# Altium footprint library Other.PcbLib: 10 footprints
Each footprint in its own frame and in the unit in brackets; x right, y up, seen from the top. Pads: shape width x height; smd on the part's side, far side on the other; paste and mask are expansions set on the pad; w line width, h text height; cw(c..) or ccw(c..) is an arc to the next point about the centre after c.
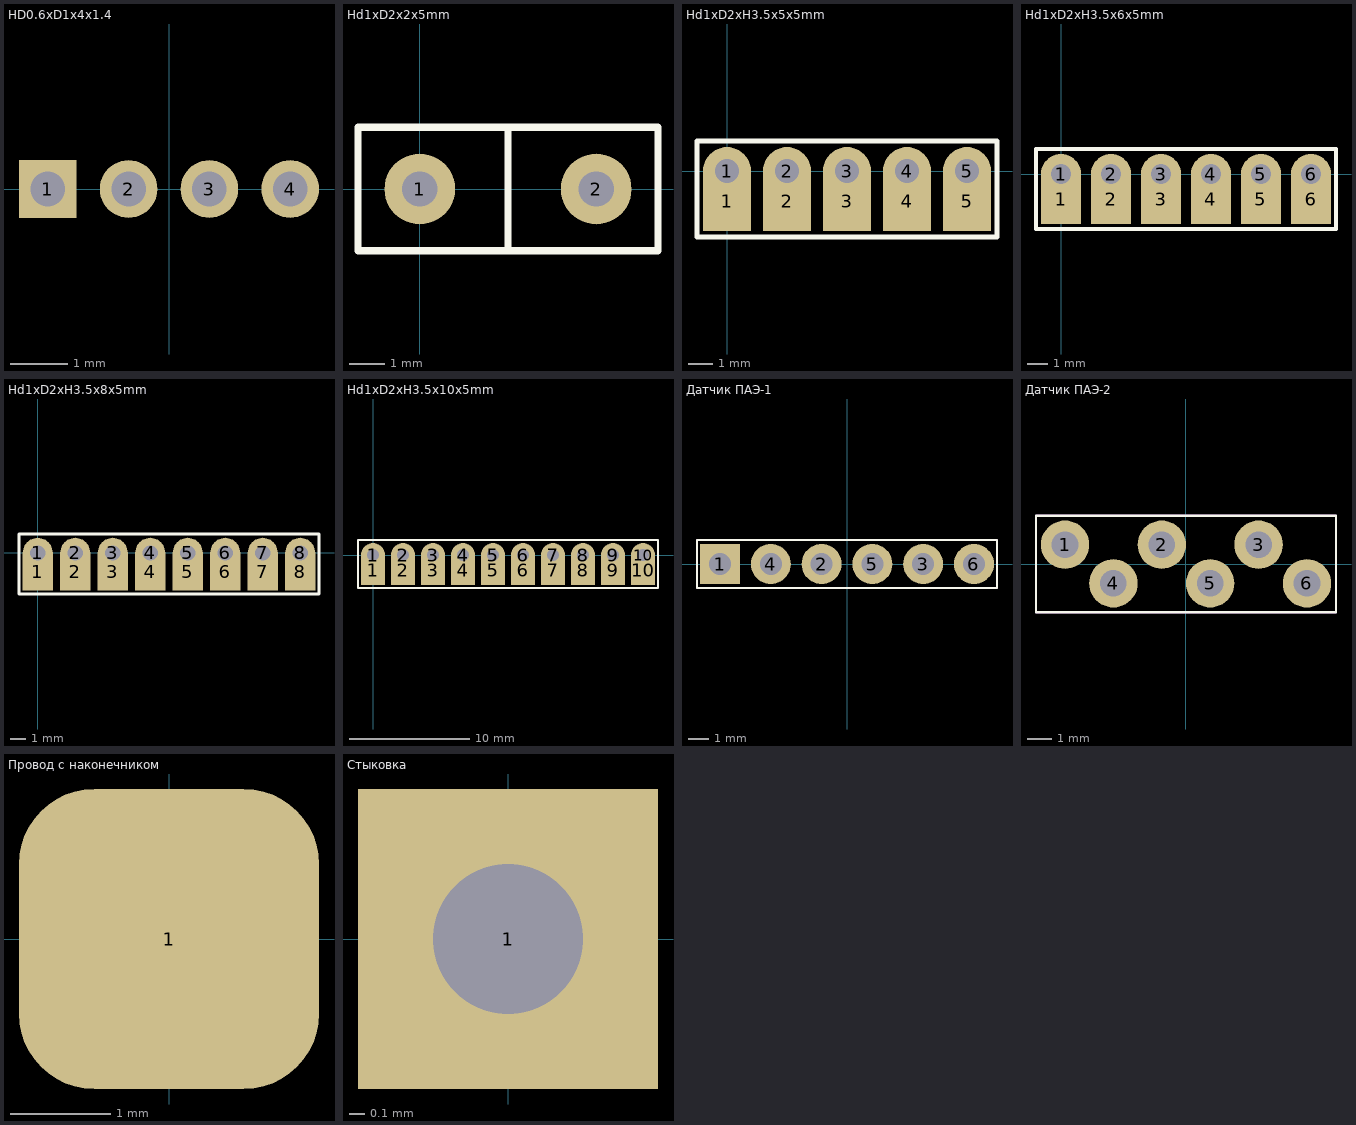
[diagram p0: the footprints below, top view; thin cyan lines are the x and y axes]

## HD0.6xD1x4x1.4 [mm]
pads (4):
  rect 1x1 hole 0.6: 1(-2.1,0)
  round 1 hole 0.6: 2(-0.7,0) 3(0.7,0) 4(2.1,0)

## Hd1xD2x2x5mm [mm]
pads (2):
  round 2 hole 1: 1(0,0) 2(5,0)
Top Overlay:
  lines w0.2: 2.5,-1.75 2.5,1.75 ; -1.75,-1.75 -1.75,1.75 6.75,1.75 6.75,-1.75 -1.75,-1.75
Bottom Overlay:
  lines w0.2: 2.5,-1.75 2.5,1.75 ; -1.75,-1.75 -1.75,1.75 6.75,1.75 6.75,-1.75 -1.75,-1.75

## Hd1xD2xH3.5x5x5mm [mm]
pads (10):
  rect 2x2.5 all layers, no hole: 1(0,-1.25) 2(2.5,-1.25) 3(5,-1.25) 4(7.5,-1.25) 5(10,-1.25)
  round 2 hole 1: 1(0,0) 2(2.5,0) 3(5,0) 4(7.5,0) 5(10,0)
Top Overlay:
  lines w0.2: -1.25,-2.75 -1.25,1.25 11.25,1.25 11.25,-2.75 -1.25,-2.75
Bottom Overlay:
  lines w0.2: -1.25,-2.75 -1.25,1.25 11.25,1.25 11.25,-2.75 -1.25,-2.75
Border:
  lines w0.1: -1.25,-2.75 -1.25,1.25 11.25,1.25 11.25,-2.75 -1.25,-2.75

## Hd1xD2xH3.5x6x5mm [mm]
pads (12):
  rect 2x2.5 all layers, no hole: 1(0,-1.25) 2(2.5,-1.25) 3(5,-1.25) 4(7.5,-1.25) 5(10,-1.25) 6(12.5,-1.25)
  round 2 hole 1: 1(0,0) 2(2.5,0) 3(5,0) 4(7.5,0) 5(10,0) 6(12.5,0)
Top Overlay:
  lines w0.2: -1.25,-2.75 -1.25,1.25 13.75,1.25 13.75,-2.75 -1.25,-2.75
Bottom Overlay:
  lines w0.2: -1.25,-2.75 -1.25,1.25 13.75,1.25 13.75,-2.75 -1.25,-2.75
Border:
  lines w0.1: -1.25,-2.75 -1.25,1.25 13.75,1.25 13.75,-2.75 -1.25,-2.75

## Hd1xD2xH3.5x8x5mm [mm]
pads (16):
  rect 2x2.5 all layers, no hole: 1(0,-1.25) 2(2.5,-1.25) 3(5,-1.25) 4(7.5,-1.25) 5(10,-1.25) 6(12.5,-1.25) 7(15,-1.25) 8(17.5,-1.25)
  round 2 hole 1: 1(0,0) 2(2.5,0) 3(5,0) 4(7.5,0) 5(10,0) 6(12.5,0) 7(15,0) 8(17.5,0)
Top Overlay:
  lines w0.2: -1.25,-2.75 18.75,-2.75 18.75,1.25 -1.25,1.25 -1.25,-2.75
Bottom Overlay:
  lines w0.2: -1.25,-2.75 18.75,-2.75 18.75,1.25 -1.25,1.25 -1.25,-2.75
Border:
  lines w0.1: -1.25,-2.75 18.75,-2.75 18.75,1.25 -1.25,1.25 -1.25,-2.75

## Hd1xD2xH3.5x10x5mm [mm]
pads (20):
  rect 2x2.5 all layers, no hole: 1(0,-1.25) 2(2.5,-1.25) 3(5,-1.25) 4(7.5,-1.25) 5(10,-1.25) 6(12.5,-1.25) 7(15,-1.25) 8(17.5,-1.25) 9(20,-1.25) 10(22.5,-1.25)
  round 2 hole 1: 1(0,0) 2(2.5,0) 3(5,0) 4(7.5,0) 5(10,0) 6(12.5,0) 7(15,0) 8(17.5,0) 9(20,0) 10(22.5,0)
Top Overlay:
  lines w0.2: -1.25,-2.75 -1.25,1.25 23.75,1.25 23.75,-2.75 -1.25,-2.75
Bottom Overlay:
  lines w0.2: -1.25,-2.75 -1.25,1.25 23.75,1.25 23.75,-2.75 -1.25,-2.75

## Датчик ПАЭ-1 [mm]
pads (6):
  rect 2x2 hole 1.1: 1(-6.35,0)
  round 2 hole 1.1: 2(-1.27,0) 3(3.81,0) 4(-3.81,0) 5(1.27,0) 6(6.35,0)
Top Overlay:
  lines w0.1: -7.5,-1.2 -7.5,1.2 7.5,1.2 7.5,-1.2 -7.5,-1.2
Bottom Overlay:
  lines w0.1: -7.5,-1.2 7.5,-1.2 7.5,1.2 -7.5,1.2 -7.5,-1.2
Border:
  lines w0.1: -7.5,-1.2 7.5,-1.2 7.5,1.2 -7.5,1.2 -7.5,-1.2

## Датчик ПАЭ-2 [mm]
pads (6):
  round 2 hole 1.1: 1(-5,0.8) 2(-1,0.8) 3(3,0.8) 4(-3,-0.8) 5(1,-0.8) 6(5,-0.8)
Top Overlay:
  lines w0.1: -6.2,-2 6.2,-2 6.2,2 -6.2,2 -6.2,-2
Bottom Overlay:
  lines w0.1: -6.2,-2 -6.2,2 6.2,2 6.2,-2 -6.2,-2
Border:
  lines w0.1: -6.2,-2 -6.2,2 6.2,2 6.2,-2 -6.2,-2

## Провод с наконечником [mm]
pads (1):
  rrect50% 3x3 smd: 1(0,0)
3D body "Провод с наконечником.stp": height 21.5, standoff 0, extent -1,-2.497 15.5,2.497

## Стыковка [mm]
pads (1):
  rect 2x2 hole 1: 1(0,0)